# Altium footprint library PcbLib1.PcbLib: 8 footprints
Each footprint in its own frame and in the unit in brackets; x right, y up, seen from the top. Pads: shape width x height; smd on the part's side, far side on the other; paste and mask are expansions set on the pad; w line width, h text height; cw(c..) or ccw(c..) is an arc to the next point about the centre after c.
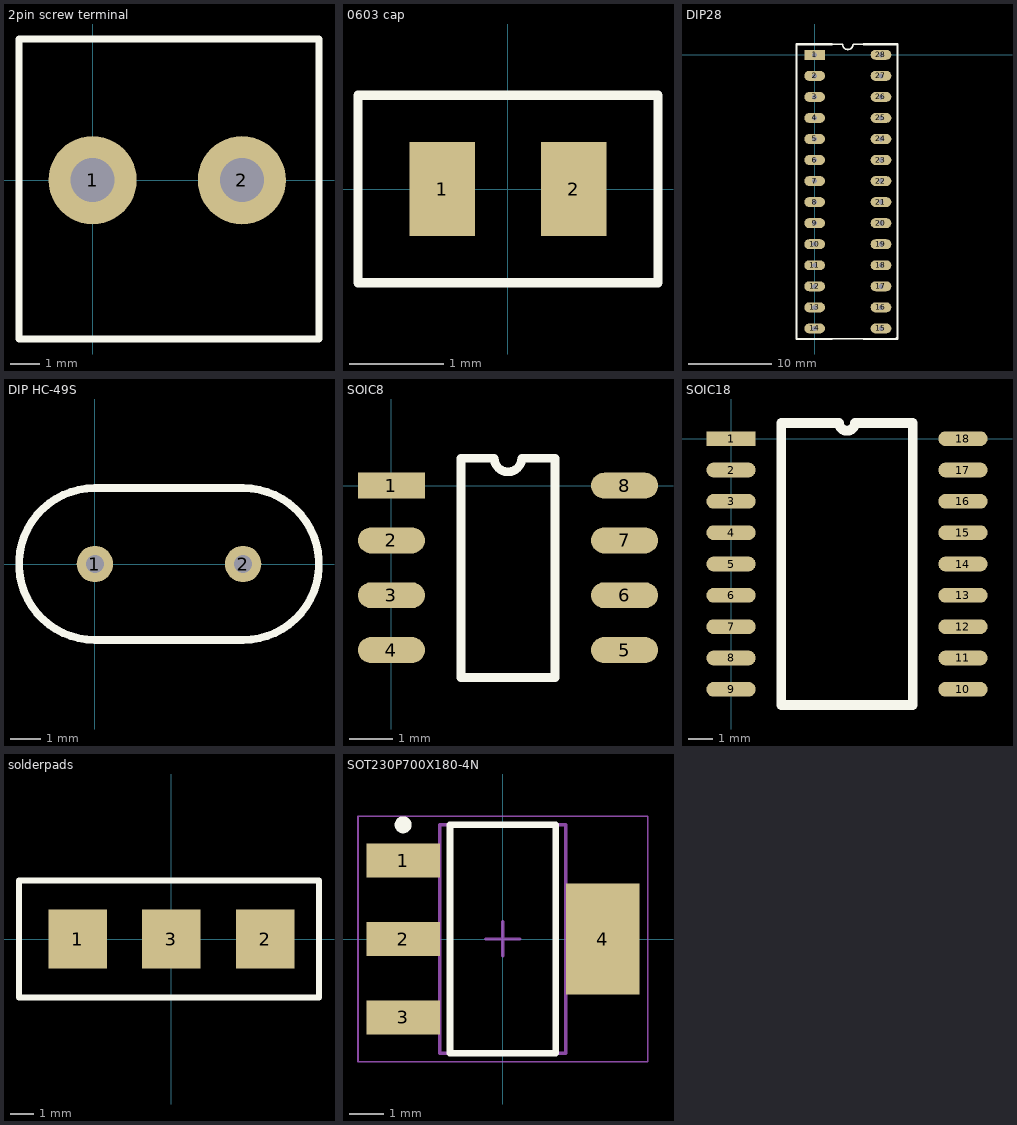
[diagram p0: the footprints below, top view; thin cyan lines are the x and y axes]

## 2pin screw terminal [mm]
pads (2):
  round 3 hole 1.5: 1(0,0) 2(5.08,0)
Top Overlay:
  lines w0.254: -2.5,-5.4 7.7,-5.4 7.7,4.8 -2.5,4.8 -2.5,0 -2.5,-5.4
3D body "User Library-2 Way PCB Screw Terminal Block 5_08mm.step": height 15.2, standoff -3.5, extent -2.48,-4.5 7.68,4.5

## 0603 cap [mm]
pads (2):
  rect 0.7x1 smd: 1(-0.7,0) 2(0.7,0)
Top Overlay:
  lines w0.1: -1.6,-1 1.6,-1 1.6,1 -1.6,1 -1.6,0 -1.6,-1
3D body "User Library-Chip Cap_MLCC_0603 (1608).step": height 0.5, standoff 0, extent -0.8,-0.4 0.8,0.4

## DIP28 [mm]
pads (28):
  rect 2.5x1.2 hole 0.6: 1(0,0)
  oval 2.5x1.2 hole 0.6: 2(0,-2.54) 3(0,-5.08) 4(0,-7.62) 5(0,-10.16) 6(0,-12.7) 7(0,-15.24) 8(0,-17.78) 9(0,-20.32) 10(0,-22.86) 11(0,-25.4) 12(0,-27.94) 13(0,-30.48) 14(0,-33.02) 15(8,-33.02) 16(8,-30.48) 17(8,-27.94) 18(8,-25.4) 19(8,-22.86) 20(8,-20.32) 21(8,-17.78) 22(8,-15.24) 23(8,-12.7) 24(8,-10.16) 25(8,-7.62) 26(8,-5.08) 27(8,-2.54) 28(8,0)
Top Overlay:
  lines w0.2: 2.085,-34.29 5.915,-34.29 ; 2.085,1.27 3.365,1.27 ccw(c4,1.27) 4.635,1.27 5.915,1.27
  lines w0.254: 2.085,-34.29 -2.19,-34.29 -2.2,-34.3 -2.2,1.24 -2.17,1.27 2.085,1.27 ; 5.915,1.27 9.97,1.27 10,1.24 10,-34.1 ; 5.925,-34.3 9.8,-34.3 10,-34.1 ; 9.6,-34.3 10,-34.3 10,-34.1
3D body "User Library-User Library-ATmega 48_88_168_328 28P3_90DEG.step": height 5.44, standoff -1.68, extent 0.047,-33.75 7.953,0.9

## DIP HC-49S [mm] "XTAL 16mhz"
pads (2):
  round 1.2 hole 0.6: 1(0,0) 2(4.88,0)
Top Overlay:
  lines w0.254: 0,-2.5 cw(c0,0) 0,2.5 4.88,2.5 cw(c4.88,0) 4.88,-2.5 0,-2.5
3D body "User Library-HC-49_LT_THT_16MHz.step": height 3.6, standoff -1.99, extent -3.175,-2.325 8.175,2.325

## SOIC8 [mm] "MCP2562-E/SO"
pads (8):
  rect 1.55x0.6 smd: 1(0,0)
  oval 1.55x0.6 smd: 2(0,-1.27) 3(0,-2.54) 4(0,-3.81) 5(5.4,-3.81) 6(5.4,-2.54) 7(5.4,-1.27) 8(5.4,0)
Top Overlay:
  lines w0.2: 1.61,-4.445 3.79,-4.445 3.79,0.635 3.017,0.635 cw(c2.7,0.635) 2.382,0.635 1.61,0.635 1.61,-4.445
3D body "User Library-SOIC8_4_9x3_9_1_53_p1_27.step": height 1.55, standoff -0.11, extent -0.3,-4.35 5.7,0.55

## SOIC18 [mm] "MCP2515-I/SO"
pads (18):
  rect 2x0.6 smd: 1(0,0)
  oval 2x0.6 smd: 2(0,-1.27) 3(0,-2.54) 4(0,-3.81) 5(0,-5.08) 6(0,-6.35) 7(0,-7.62) 8(0,-8.89) 9(0,-10.16) 10(9.4,-10.16) 11(9.4,-8.89) 12(9.4,-7.62) 13(9.4,-6.35) 14(9.4,-5.08) 15(9.4,-3.81) 16(9.4,-2.54) 17(9.4,-1.27) 18(9.4,0)
Top Overlay:
  lines w0.4: 2.035,-10.795 2.035,0.635 4.382,0.635 ccw(c4.7,0.635) 5.017,0.635 7.365,0.635 7.365,-10.795 2.035,-10.795
3D body "User Library-SOIC18-300.step": height 2.65, standoff 0, extent -0.55,-10.865 9.75,0.665

## solderpads [mm]
pads (3):
  rect 2.5x2.5 smd: 1(-4,0) 2(4,0) 3(0,0)
Top Overlay:
  lines w0.2: 3.5,-2.5 -6.5,-2.5 -6.5,0 -6.5,2.5 3.5,2.5
  lines w0.254: -6.5,-2.5 -6.5,2.5 3.5,2.5 6.3,2.5 6.3,0.95 6.3,-0.95 6.3,-2.5 3.5,-2.5 -6.5,-2.5

## SOT230P700X180-4N [mm] "SOT223, 4-Leads, Body 6,50x7,00mm (avg), Pitch 2,30mm, IPC Medium Density"
height 1.8
pads (4):
  rect 2.15x1 smd: 1(-2.925,2.3) 2(-2.925,0) 3(-2.925,-2.3)
  rect 2.15x3.25 smd: 4(2.925,0)
Top Overlay:
  circle w0.25: c-2.925,3.35 r0.125
  lines w0.2: -1.55,-3.35 1.55,-3.35 1.55,3.35 -1.55,3.35 -1.55,-3.35
Mechanical 13:
  lines w0.1: -1.85,-3.35 1.85,-3.35 1.85,3.35 -1.85,3.35 -1.85,-3.35
Mechanical 15:
  lines w0.05: -4.25,-3.6 4.25,-3.6 4.25,3.6 -4.25,3.6 -4.25,-3.6
  lines w0.1: -0.5,0 0.5,0 ; 0,-0.5 0,0.5
3D body: height 1.8, standoff 0.02, extent -1.85,-3.35 1.85,3.35